# EAGLE library part LEA-6T (library B200-GPSDO)
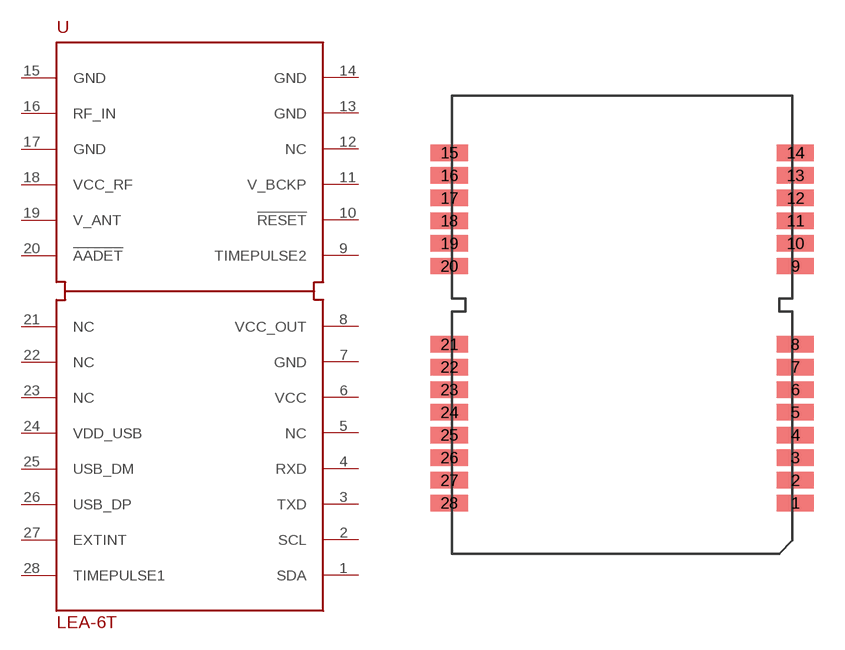
[diagram p0: symbol with the pads of LEA; footprint LEA]

Designator prefix -

## LEA-6T  [LEA]
1  SDA
2  SCL
3  TXD  out
4  RXD  in
5  NC  nc
6  VCC  pwr
7  GND  pwr
8  VCC_OUT  out
9  TIMEPULSE2  out
10  !RESET  in
11  V_BCKP  out
12  NC  nc
13  GND  pwr
14  GND  pwr
15  GND  pwr
16  RF_IN
17  GND  pwr
18  VCC_RF  out
19  V_ANT  in
20  !AADET  in
21  NC  nc
22  NC  nc
23  NC  nc
24  VDD_USB  in
25  USB_DM
26  USB_DP
27  EXTINT  in
28  TIMEPULSE1  out

## Footprint LEA (pad centres in mm)
smd 1.8 x 0.8: 1 8.4,-8.65; 2 8.4,-7.55; 3 8.4,-6.45; 4 8.4,-5.35; 5 8.4,-4.25; 6 8.4,-3.15; 7 8.4,-2.05; 8 8.4,-0.95; 9 8.4,2.85; 10 8.4,3.95; 11 8.4,5.05; 12 8.4,6.15; 13 8.4,7.25; 14 8.4,8.35; 15 -8.4,8.35; 16 -8.4,7.25; 17 -8.4,6.15; 18 -8.4,5.05; 19 -8.4,3.95; 20 -8.4,2.85; 21 -8.4,-0.95; 22 -8.4,-2.05; 23 -8.4,-3.15; 24 -8.4,-4.25; 25 -8.4,-5.35; 26 -8.4,-6.45; 27 -8.4,-7.55; 28 -8.4,-8.65